# EAGLE library part HEADER-1X12 (library anykey)
12 pin header
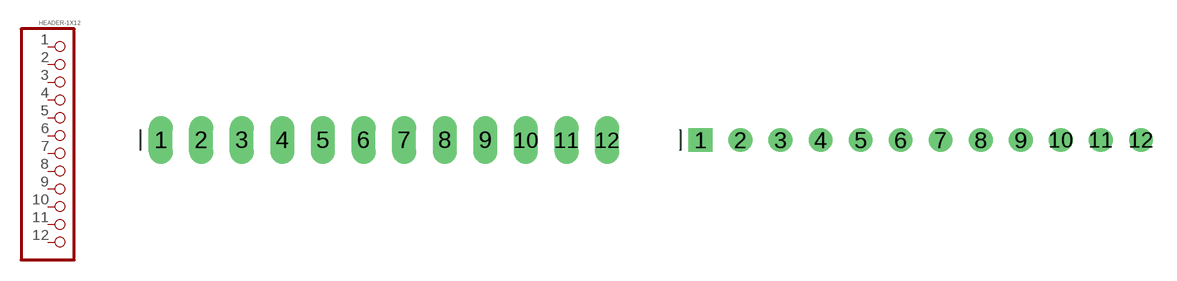
[diagram p32: symbol with the pads of 1X12_OVAL; footprints 1X12_OVAL, 1X12_ROUND]

Designator prefix P

## HEADER-1X12OVAL  [1X12_OVAL]
1  1  pas
2  2  pas
3  3  pas
4  4  pas
5  5  pas
6  6  pas
7  7  pas
8  8  pas
9  9  pas
10  10  pas
11  11  pas
12  12  pas

## HEADER-1X12ROUND  [1X12_ROUND]
Pads as for 1X12_OVAL

## HEADER-1X122X6_1.27_SMD  [2X06_SMT]
Pads as for 1X12_OVAL

## Footprint 1X12_OVAL (pad centres in mm)
drill 1 long: 1 -13.97,0; 2 -11.43,0; 3 -8.89,0; 4 -6.35,0; 5 -3.81,0; 6 -1.27,0; 7 1.27,0; 8 3.81,0; 9 6.35,0; 10 8.89,0; 11 11.43,0; 12 13.97,0

## Footprint 1X12_ROUND (pad centres in mm)
drill 1 square: 1 -13.97,0
drill 1: 2 -11.43,0; 3 -8.89,0; 4 -6.35,0; 5 -3.81,0; 6 -1.27,0; 7 1.27,0; 8 3.81,0; 9 6.35,0; 10 8.89,0; 11 11.43,0; 12 13.97,0

## Footprint 2X06_SMT (pad centres in mm)
1.27mm pitch 2x6 header, SMD
smd 0.762 x 2.4: 1 -3.175,-1.95; 2 -3.175,1.95; 3 -1.905,-1.95; 4 -1.905,1.95; 5 -0.635,-1.95; 6 -0.635,1.95; 7 0.635,-1.95; 8 0.635,1.95; 9 1.905,-1.95; 10 1.905,1.95; 11 3.175,-1.95; 12 3.175,1.95